# EAGLE library part ATTINY1614-SSNR (library CustomParts)
20MHz, SOIC, 85C, Green, 14 SOIC .150in T/R Check availability <https://pricing.snapeda.com/parts/ATTINY1614-SSNR/Microchip/view-part?ref=eda>
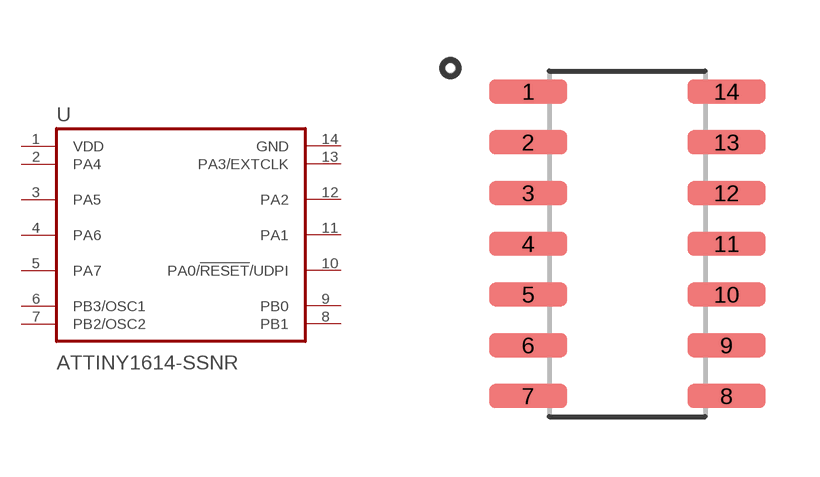
[diagram p11: symbol with the pads of SOIC127P600X175-14N; footprint SOIC127P600X175-14N]

Designator prefix U

## ATTINY1614-SSNR (AVAILABILITY: In Stock; DESCRIPTION: AVR tinyAVR™ 1, Functional Safety (FuSa) Microcontroller IC 8-Bit 20MHz 16KB (16K x 8) FLASH 14-SOIC; MF: Microchip; MP: ATTINY1614-SSNR; PACKAGE: SO-14 Microchip; PRICE: None; PURCHASE-URL: https://pricing.snapeda.com/search/part/ATTINY1614-SSNR/?ref=eda)  [SOIC127P600X175-14N]
1  VDD  pwr
2  PA4
3  PA5
4  PA6
5  PA7
6  PB3/OSC1
7  PB2/OSC2
8  PB1
9  PB0
10  PA0/!RESET!/UDPI
11  PA1
12  PA2
13  PA3/EXTCLK
14  GND  pwr

## Footprint SOIC127P600X175-14N (pad centres in mm)
smd 1.95 x 0.59: 1 -2.48,3.81; 2 -2.48,2.54; 3 -2.48,1.27; 4 -2.48,0; 5 -2.48,-1.27; 6 -2.48,-2.54; 7 -2.48,-3.81; 8 2.48,-3.81; 9 2.48,-2.54; 10 2.48,-1.27; 11 2.48,0; 12 2.48,1.27; 13 2.48,2.54; 14 2.48,3.81